# Altium footprint library SG__PCB_SMD_Connectors.PcbLib: 63 footprints (part 2 of 4)
Each footprint in its own frame and in the unit in brackets; x right, y up, seen from the top. Pads: shape width x height; smd on the part's side, far side on the other; paste and mask are expansions set on the pad; w line width, h text height; cw(c..) or ccw(c..) is an arc to the next point about the centre after c.
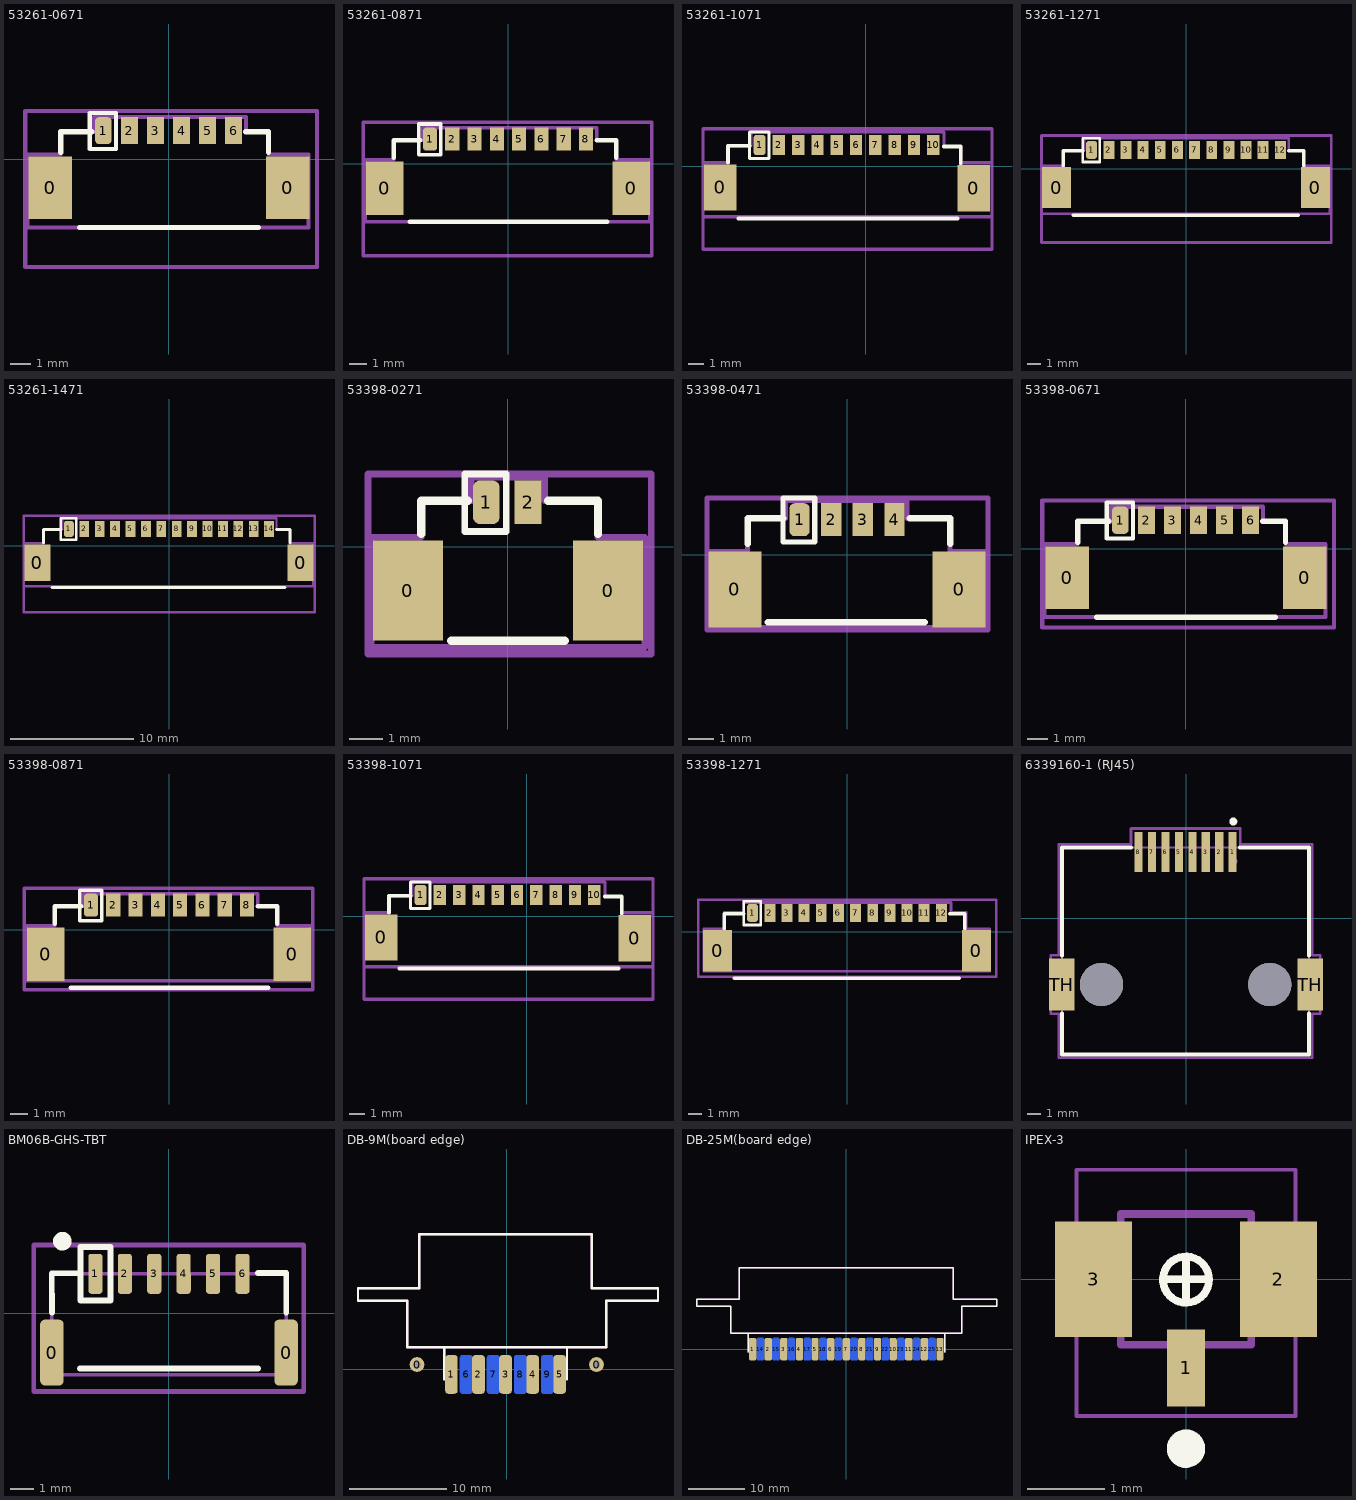
[diagram p1: the footprints below, top view; thin cyan lines are the x and y axes]

## 53261-0671 [mm] "Molex PicoBlade horizontal 6p"
pads (8):
  rect 2.1x3 smd: 0(-5.7,-1.375) 0(5.7,-1.375)
  rrect50% 0.8x1.3 smd: 1(-3.15,1.375)
  rect 0.8x1.3 smd: 2(-1.9,1.375) 3(-0.65,1.375) 4(0.6,1.375) 5(1.85,1.375) 6(3.1,1.375)
Top Overlay:
  lines w0.2: -3.8,0.5 -2.55,0.5 -2.55,2.225 -3.8,2.225 -3.8,0.5
  lines w0.254: -5.2,0.325 -5.2,1.325 -3.7,1.325 ; -4.3,-3.275 4.3,-3.275 ; 3.675,1.325 4.775,1.325 4.775,0.325
Top Assembly:
  lines w0.2: -6.8,-3.275 6.7,-3.275 6.7,0.225 4.8,0.225 4.8,1.325 3.7,1.325 3.7,2.025 -3.6,2.025 -3.6,1.325 -5.2,1.325 -5.2,0.225 -6.8,0.225 -6.8,-3.275
Top Courtyard:
  lines w0.2: -6.9,-5.175 -6.9,2.325 7.1,2.325 7.1,-5.175 -6.9,-5.175
3D body "53261-0671.stp": height 3.4, standoff 0, extent -6.425,-3.55 6.225,1.65

## 53261-0871 [mm] "Molex PicoBlade horizontal 8p"
pads (10):
  rect 2.1x3 smd: 0(-6.925,-1.375) 0(6.925,-1.375)
  rrect50% 0.8x1.3 smd: 1(-4.375,1.375)
  rect 0.8x1.3 smd: 2(-3.125,1.375) 3(-1.875,1.375) 4(-0.625,1.375) 5(0.625,1.375) 6(1.875,1.375) 7(3.125,1.375) 8(4.375,1.375)
Top Overlay:
  lines w0.2: -5.025,0.5 -3.775,0.5 -3.775,2.225 -5.025,2.225 -5.025,0.5
  lines w0.254: -6.425,0.325 -6.425,1.325 -4.925,1.325 ; -5.525,-3.275 5.575,-3.275 ; 4.975,1.325 6.075,1.325 6.075,0.325
Top Assembly:
  lines w0.2: -8.025,-3.275 7.975,-3.275 7.975,0.225 6.075,0.225 6.075,1.325 4.975,1.325 4.975,2.025 -4.825,2.025 -4.825,1.325 -6.425,1.325 -6.425,0.225 -8.025,0.225 -8.025,-3.275
Top Courtyard:
  lines w0.2: -8.125,-5.175 -8.125,2.325 8.075,2.325 8.075,-5.175 -8.125,-5.175
3D body "532610871.stp": height 3.4, standoff 0, extent -7.575,-3.325 7.575,1.875

## 53261-1071 [mm] "Molex PicoBlade horizontal 10p"
pads (12):
  rect 2.1x3 smd: 0(-9.425,-1.375) 0(7.005,-1.422)
  rrect50% 0.8x1.3 smd: 1(-6.875,1.375)
  rect 0.8x1.3 smd: 2(-5.625,1.375) 3(-4.375,1.375) 4(-3.125,1.375) 5(-1.875,1.375) 6(-0.625,1.375) 7(0.625,1.375) 8(1.875,1.375) 9(3.125,1.375) 10(4.375,1.375)
Top Overlay:
  lines w0.2: -7.525,0.5 -6.275,0.5 -6.275,2.225 -7.525,2.225 -7.525,0.5
  lines w0.254: -8.925,0.225 -8.925,1.325 -7.525,1.325 ; -8.225,-3.375 5.955,-3.375 ; 5.055,1.278 6.155,1.278 6.155,0.178
Top Assembly:
  lines w0.2: 5.055,1.278 6.155,1.278 6.155,0.178 ; 5.08,1.325 5.08,2.225 -7.425,2.225 -7.425,1.325 -8.925,1.325 -8.925,0.225 -10.525,0.225 -10.525,-3.275 8.175,-3.275 8.175,0.225 6.155,0.225
Top Courtyard:
  lines w0.2: -10.525,-5.375 -10.525,2.425 8.175,2.425 8.175,-5.375 -10.525,-5.375
3D body "0532611071.stp": height 3.4, standoff 0, extent -10.097,-3.375 7.553,1.825

## 53261-1271 [mm] "Molex PicoBlade horizontal 12p"
pads (14):
  rect 2.1x3 smd: 0(-9.425,-1.375) 0(9.425,-1.375)
  rrect50% 0.8x1.3 smd: 1(-6.875,1.375)
  rect 0.8x1.3 smd: 2(-5.625,1.375) 3(-4.375,1.375) 4(-3.125,1.375) 5(-1.875,1.375) 6(-0.625,1.375) 7(0.625,1.375) 8(1.875,1.375) 9(3.125,1.375) 10(4.375,1.375) 11(5.625,1.375) 12(6.875,1.375)
Top Overlay:
  lines w0.2: -7.525,0.5 -6.275,0.5 -6.275,2.225 -7.525,2.225 -7.525,0.5
  lines w0.254: -8.925,0.225 -8.925,1.325 -7.525,1.325 ; -8.225,-3.375 8.175,-3.375 ; 7.475,1.325 8.575,1.325 8.575,0.225
Top Assembly:
  lines w0.2: -10.525,-3.275 -10.525,0.225 -8.925,0.225 -8.925,1.325 -7.425,1.325 -7.425,2.225 7.475,2.225 7.475,1.325 8.575,1.325 8.575,0.225 10.475,0.225 10.475,-3.275 -10.525,-3.275
Top Courtyard:
  lines w0.2: -10.525,-5.375 -10.525,2.425 10.575,2.425 10.575,-5.375 -10.525,-5.375
3D body "532611271.stp": height 3.4, standoff 0, extent -10.125,-3.375 10.025,1.825

## 53261-1471 [mm] "Molex PicoBlade horizontal 14p"
pads (16):
  rect 2.1x3 smd: 0(-10.675,-1.375) 0(10.675,-1.375)
  rrect50% 0.8x1.3 smd: 1(-8.125,1.375)
  rect 0.8x1.3 smd: 2(-6.875,1.375) 3(-5.625,1.375) 4(-4.375,1.375) 5(-3.125,1.375) 6(-1.875,1.375) 7(-0.625,1.375) 8(0.625,1.375) 9(1.875,1.375) 10(3.125,1.375) 11(4.375,1.375) 12(5.625,1.375) 13(6.875,1.375) 14(8.125,1.375)
Top Overlay:
  lines w0.2: -8.775,0.5 -7.525,0.5 -7.525,2.225 -8.775,2.225 -8.775,0.5
  lines w0.254: -10.175,0.225 -10.175,1.325 -8.775,1.325 ; -9.475,-3.375 9.425,-3.375 ; 8.725,1.325 9.825,1.325 9.825,0.225
Top Assembly:
  lines w0.2: -11.775,-3.275 -11.775,0.225 -10.175,0.225 -10.175,1.325 -8.675,1.325 -8.675,2.225 8.725,2.225 8.725,1.325 9.825,1.325 9.825,0.225 11.725,0.225 11.725,-3.275 -11.775,-3.275
Top Courtyard:
  lines w0.2: -11.775,-5.375 -11.775,2.425 11.825,2.425 11.825,-5.375 -11.775,-5.375
3D body "532611471.stp": height 3.4, standoff 0, extent -11.4,-3.35 11.25,1.85

## 53398-0271 [mm] "MOLEX PICOBLADE vertical 2p"
pads (4):
  rect 2.1x3 smd: 0(-3,-1.325) 0(3,-1.325)
  rrect50% 0.8x1.3 smd: 1(-0.65,1.325)
  rect 0.8x1.3 smd: 2(0.6,1.325)
Top Overlay:
  lines w0.2: -1.3,0.45 -0.05,0.45 -0.05,2.175 -1.3,2.175 -1.3,0.45
  lines w0.254: -2.6,0.375 -2.6,1.375 -1.2,1.375 ; -1.7,-2.825 1.7,-2.825 ; 1.2,1.375 2.7,1.375 2.7,0.375
Top Assembly:
  lines w0.2: -4.1,-3.025 4.1,-3.025 4.1,0.275 2.7,0.275 2.7,1.375 1.1,1.375 1.1,2.075 -1.1,2.075 -1.1,1.375 -2.6,1.375 -2.6,0.275 -4.1,0.275 -4.1,-3.025
Top Courtyard:
  lines w0.2: -4.15,2.175 4.3,2.175 4.3,-3.225 -4.2,-3.225 -4.2,2.175 -4.1,2.175
3D body "Molex_picoblade_2pin_vertical_533980271.stp": height 4.97, standoff 0.23, extent -3.825,-2.825 3.825,1.375

## 53398-0471 [mm] "Molex PicoBlade vertical 4p"
pads (6):
  rect 2.1x3 smd: 0(-4.425,-1.375) 0(4.425,-1.375)
  rrect50% 0.8x1.3 smd: 1(-1.875,1.375)
  rect 0.8x1.3 smd: 2(-0.625,1.375) 3(0.625,1.375) 4(1.875,1.375)
Top Overlay:
  lines w0.2: -2.525,0.5 -1.275,0.5 -1.275,2.225 -2.525,2.225 -2.525,0.5
  lines w0.254: -3.925,0.425 -3.925,1.425 -2.525,1.425 ; -3.125,-2.675 3.075,-2.675 ; 2.475,1.425 4.075,1.425 4.075,0.425
Top Assembly:
  lines w0.2: -5.425,-2.875 5.475,-2.875 5.475,0.125 4.075,0.125 4.075,1.425 2.375,1.425 2.375,2.125 -2.425,2.125 -2.425,1.425 -3.925,1.425 -3.925,0.125 -5.425,0.125 -5.425,-2.875
Top Courtyard:
  lines w0.2: -5.525,-2.975 5.575,-2.975 5.575,2.225 -5.525,2.225 -5.525,-2.975
3D body "User Library-molex 5339853398-0471.STEP": height 4.7, standoff 0, extent -5.05,-2.725 5.1,1.475

## 53398-0671 [mm] "Molex PicoBlade horizontal 6p"
pads (8):
  rect 2.1x3 smd: 0(-5.7,-1.375) 0(5.7,-1.375)
  rrect50% 0.8x1.3 smd: 1(-3.15,1.375)
  rect 0.8x1.3 smd: 2(-1.9,1.375) 3(-0.65,1.375) 4(0.6,1.375) 5(1.85,1.375) 6(3.1,1.375)
Top Overlay:
  lines w0.2: -3.8,0.5 -2.55,0.5 -2.55,2.225 -3.8,2.225 -3.8,0.5
  lines w0.254: -5.2,0.325 -5.2,1.325 -3.7,1.325 ; -4.3,-3.275 4.3,-3.275 ; 3.675,1.325 4.775,1.325 4.775,0.325
Top Assembly:
  lines w0.2: -6.8,-3.275 -6.8,0.225 -5.2,0.225 -5.2,1.325 -3.6,1.325 -3.6,2.025 3.7,2.025 3.7,1.325 4.8,1.325 4.8,0.225 6.7,0.225 6.7,-3.275 -6.8,-3.275
Top Courtyard:
  lines w0.2: -6.9,-3.775 7.1,-3.775 7.1,2.325 -6.9,2.325 -6.9,-3.775
3D body "53398-0671.stp": height 4.77, standoff 0.08, extent -6.325,-2.675 6.325,1.525

## 53398-0871 [mm] "Molex PicoBlade vertical 8p"
pads (10):
  rect 2.1x3 smd: 0(-6.925,-1.375) 0(6.925,-1.375)
  rrect50% 0.8x1.3 smd: 1(-4.375,1.375)
  rect 0.8x1.3 smd: 2(-3.125,1.375) 3(-1.875,1.375) 4(-0.625,1.375) 5(0.625,1.375) 6(1.875,1.375) 7(3.125,1.375) 8(4.375,1.375)
Top Overlay:
  lines w0.2: -5.025,0.5 -3.775,0.5 -3.775,2.225 -5.025,2.225 -5.025,0.5
  lines w0.254: -6.425,0.325 -6.425,1.325 -4.925,1.325 ; -5.525,-3.275 5.575,-3.275 ; 4.975,1.325 6.075,1.325 6.075,0.325
Top Assembly:
  lines w0.2: -8.025,-2.875 -8.025,0.225 -6.425,0.225 -6.425,1.325 -4.825,1.325 -4.825,2.025 4.975,2.025 4.975,1.325 6.075,1.325 6.075,0.225 7.975,0.225 7.975,-2.875 -8.025,-2.875
Top Courtyard:
  lines w0.2: -8.125,-3.375 8.075,-3.375 8.075,2.325 -8.125,2.325 -8.125,-3.375
3D body "53398_0871.stp": height 4.77, standoff 0.08, extent -7.5,-2.575 7.65,1.625

## 53398-1071 [mm] "Molex PicoBlade horizontal 10p"
pads (12):
  rect 2.1x3 smd: 0(-9.425,-1.375) 0(7.005,-1.422)
  rrect50% 0.8x1.3 smd: 1(-6.875,1.375)
  rect 0.8x1.3 smd: 2(-5.625,1.375) 3(-4.375,1.375) 4(-3.125,1.375) 5(-1.875,1.375) 6(-0.625,1.375) 7(0.625,1.375) 8(1.875,1.375) 9(3.125,1.375) 10(4.375,1.375)
Top Overlay:
  lines w0.2: -7.525,0.5 -6.275,0.5 -6.275,2.225 -7.525,2.225 -7.525,0.5
  lines w0.254: -8.925,0.225 -8.925,1.325 -7.525,1.325 ; -8.225,-3.375 5.955,-3.375 ; 5.055,1.278 6.155,1.278 6.155,0.178
Top Assembly:
  lines w0.2: 5.055,1.278 6.155,1.278 6.155,0.178 ; 5.08,1.325 5.08,2.225 -7.425,2.225 -7.425,1.325 -8.925,1.325 -8.925,0.225 -10.525,0.225 -10.525,-3.275 8.175,-3.275 8.175,0.225 6.155,0.225
Top Courtyard:
  lines w0.2: -10.525,-5.375 -10.525,2.425 8.175,2.425 8.175,-5.375 -10.525,-5.375
3D body "0533981071.stp": height 4.7, standoff 0, extent -10.095,-2.875 7.555,1.325

## 53398-1271 [mm] "Molex PicoBlade vertical 12p"
pads (14):
  rect 2.1x3 smd: 0(-9.425,-1.375) 0(9.425,-1.375)
  rrect50% 0.8x1.3 smd: 1(-6.875,1.375)
  rect 0.8x1.3 smd: 2(-5.625,1.375) 3(-4.375,1.375) 4(-3.125,1.375) 5(-1.875,1.375) 6(-0.625,1.375) 7(0.625,1.375) 8(1.875,1.375) 9(3.125,1.375) 10(4.375,1.375) 11(5.625,1.375) 12(6.875,1.375)
Top Overlay:
  lines w0.2: -7.525,0.5 -6.275,0.5 -6.275,2.225 -7.525,2.225 -7.525,0.5
  lines w0.254: -8.925,0.225 -8.925,1.325 -7.525,1.325 ; -8.225,-3.375 8.175,-3.375 ; 7.475,1.325 8.575,1.325 8.575,0.225
Top Assembly:
  lines w0.2: -10.425,-2.875 -10.425,0.225 -8.925,0.225 -8.925,1.425 -7.525,1.425 -7.525,2.125 7.575,2.125 7.575,1.425 8.675,1.425 8.675,0.225 10.375,0.225 10.375,-2.875 -10.425,-2.875
Top Courtyard:
  lines w0.2: -10.825,-3.275 10.875,-3.275 10.875,2.325 -10.825,2.325 -10.825,-3.275
3D body "53398_1271.stp": height 4.97, standoff 0.28, extent -10,-2.775 10.15,1.425

## 6339160-1 (RJ45) [mm]
pads (12):
  rect 0.61x3.05 smd: 1(3.525,5.002) 2(2.509,5.002) 3(1.493,5.002) 4(0.477,5.002) 5(-0.539,5.002) 6(-1.555,5.002) 7(-2.571,5.002) 8(-3.587,5.002)
  rect 1.945x3.9 smd: TH(-9.371,-4.998) TH(9.371,-5.002)
  round 3.25 hole 3.25 unplated: ""(-6.381,-4.998) ""(6.319,-4.998)
Top Overlay:
  circle w0.4: c3.569,7.302 r0.1
  lines w0.3: -9.351,-7.198 -9.351,-10.278 9.289,-10.278 9.289,-7.198 ; -9.351,-2.798 -9.351,5.342 -4.131,5.342 ; 4.069,5.342 9.289,5.342 9.289,-2.798
Mechanical 13:
  circle w0.4: c3.569,4.302 r0.1
  lines w0.127: -9.351,-10.278 -9.351,5.342 9.289,5.342 9.289,-10.278 -9.351,-10.278
Mechanical 15:
  lines w0.2: -10.201,-7.198 -10.201,-2.798 -9.601,-2.798 -9.601,5.592 -4.146,5.592 -4.146,6.777 4.084,6.777 4.084,5.592 9.539,5.592 9.539,-2.798 10.139,-2.798 10.139,-7.198 9.539,-7.198 9.539,-10.528 -9.601,-10.528 -9.601,-7.198 -10.201,-7.198
3D body "c-6339160-1-e-3d.stp": height 14.92, standoff -1, extent -9.431,-10.198 9.369,6.282

## BM06B-GHS-TBT [mm]
pads (8):
  rrect40% 1x2.8 smd: 0(-4.975,-1.675) 0(4.976,-1.675)
  rrect40% 0.6x1.7 smd rot 0.05: 1(-3.126,1.675) 2(-1.875,1.675) 3(-0.626,1.675) 4(0.625,1.675) 5(1.875,1.675) 6(3.125,1.675)
Top Overlay:
  circle w0.4: c-4.534,3.061 r0.195
  lines w0.25: -4.981,1.688 -4.979,0.026 ; -4.957,1.696 -3.753,1.695 ; -3.79,-2.347 3.791,-2.347 ; 3.778,1.703 4.982,1.702 ; 4.983,1.688 4.984,0.026
  lines w0.254: -3.753,0.539 -2.491,0.539 -2.491,2.814 -3.753,2.814 -3.753,0.539
Top Assembly:
  lines w0.15: -4.975,-2.626 4.984,-2.626 4.984,1.675 -4.975,1.675 -4.975,-2.626
Top Courtyard:
  lines w0.2: -5.751,-3.325 5.724,-3.325 5.724,2.9 -5.751,2.9 -5.751,-3.325
3D body "step_temp.STEP": height 4.05, standoff -0.15, extent -5.341,-2.626 5.409,2.324

## DB-9M(board edge) [mil]
pads (11):
  round 60 hole 30: 0(-365,20) 0(365,20)
  rrect50% 51.18x157.48 smd: 1(-225,-20) 2(-115,-20) 3(-5,-20) 4(105,-20) 5(215,-20)
  rrect50% 51.18x157.48 smd far side: 6(-165,-20) 7(-55,-20) 8(55,-20) 9(165,-20)
Top Overlay:
  lines w10: -255,-40 -255,90 ; 245,-40 245,90 ; -255,90 245,90 ; -255,90 -405,90 -405,280 -605,280 -605,330 -355,330 -355,550 345,550 345,330 615,330 615,280 405,280 405,90 245,90
Top Assembly:
  lines w10: -255,-40 -255,90 ; 245,-40 245,90 ; -255,90 245,90 ; -255,90 -405,90 -405,280 -605,280 -605,330 -355,330 -355,550 345,550 345,330 615,330 615,280 405,280 405,90 245,90
3D body "DB-9M.stp": height 247.05, standoff -247.05, extent -601.3,-40.71 611.3,545.9

## DB-25M(board edge) [mm]
pads (25):
  rrect50% 1.3x4 smd: 1(-16.62,0) 2(-13.85,0) 3(-11.08,0) 4(-8.31,0) 5(-5.54,0) 6(-2.77,0) 7(0,0) 8(2.77,0) 9(5.54,0) 10(8.31,0) 11(11.08,0) 12(13.85,0) 13(16.62,0)
  rrect50% 1.3x4 smd far side: 14(-15.235,0) 15(-12.465,0) 16(-9.695,0) 17(-6.925,0) 18(-4.155,0) 19(-1.385,0) 20(1.385,0) 21(4.155,0) 22(6.925,0) 23(9.695,0) 24(12.465,0) 25(15.235,0)
Top Overlay:
  lines w0.254: -17.382,-0.508 -17.382,2.794 ; 17.5,-0.508 17.5,2.794 ; -17.382,2.794 17.5,2.794 ; -17.382,2.794 -20.5,2.794 -20.5,7.62 -26.5,7.62 -26.5,8.89 -19,8.89 -19,14.478 19,14.478 19,8.89 26.75,8.89 26.75,7.62 20.5,7.62 20.5,2.794 17.5,2.794
Top Assembly:
  lines w0.254: -17.382,-0.508 -17.382,2.794 ; -4.682,2.794 20.5,2.794 20.5,7.62 26.75,7.62 26.75,8.89 19,8.89 19,14.478 -19,14.478 -19,8.89 -26.5,8.89 -26.5,7.62 -20.5,7.62 -20.5,2.794 -17.382,2.794 ; 17.5,-0.508 17.5,2.794 -17.382,2.794
3D body "CircuitWorks-DB25_M.step": height 5.58, standoff -7.42, extent -26.78,-0.99 27.07,14.87

## IPEX-3 [mm] "Hand Drawn, 4-Leads, Body 1.7x1.7mm"
height 0.85
pads (3):
  rect 0.5x1 smd: 1(0,-1.15)
  rect 1x1.5 smd: 2(1.2,0) 3(-1.2,0)
Top Overlay:
  circle w0.1: c0,-0.003 r0.3
  circle w0.25: c0,-2.2 r0.125
  lines w0.1: -0.25,0 0.25,0 ; 0,-0.25 0,0.25
Mechanical 13:
  lines w0.1: -0.85,-0.85 0.85,-0.85 0.85,0.85 -0.85,0.85 -0.85,-0.85
Mechanical 15:
  lines w0.05: -1.425,-1.775 -1.425,1.425 ; -1.4,-1.775 1.4,-1.775 ; -1.4,1.425 1.4,1.425 ; 1.425,-1.775 1.425,1.425
  lines w0.1: -0.25,0 0.25,0 ; 0,-0.25 0,0.25
3D body: height 0.85, standoff 0, extent -0.85,-0.85 0.85,0.85